# Altium footprint library E22系列-PcbLib.PcbLib: 5 footprints
Each footprint in its own frame and in the unit in brackets; x right, y up, seen from the top. Pads: shape width x height; smd on the part's side, far side on the other; paste and mask are expansions set on the pad; w line width, h text height; cw(c..) or ccw(c..) is an arc to the next point about the centre after c.
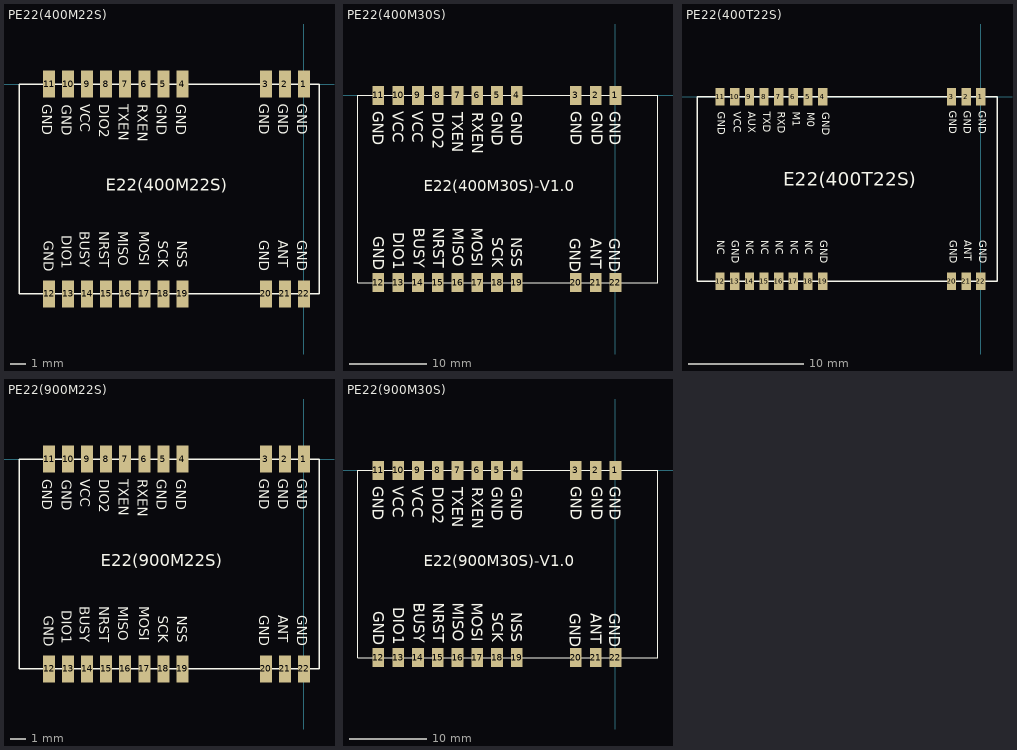
[diagram p0: the footprints below, top view; thin cyan lines are the x and y axes]

## PE22(400M22S) [mm] "20mm*14mm*2.8mm-S"
pads (22):
  rect 0.8x1.8 smd: 1(0,0) 2(-1.27,0) 3(-2.54,0) 4(-8.11,0) 5(-9.38,0) 6(-10.65,0) 7(-11.92,0) 8(-13.19,0) 9(-14.46,0) 10(-15.73,0) 11(-17,0) 12(-17,-14) 13(-15.73,-14) 14(-14.46,-14) 15(-13.19,-14) 16(-11.92,-14) 17(-10.65,-14) 18(-9.38,-14) 19(-8.11,-14) 20(-2.54,-14) 21(-1.27,-14) 22(0,-14)
Top Overlay:
  lines w0.1: -19,-14 -19,0 1,0 1,-14 -19,-14
  text "GND" at -8.528,-1.353 h0.65
  text "GND" at -9.807,-1.353 h0.65
  text "RXEN" at -11.086,-1.353 h0.65
  text "TXEN" at -12.364,-1.353 h0.65
  text "DIO2" at -13.643,-1.353 h0.65
  text "VCC" at -14.922,-1.353 h0.65
  text "GND" at -16.14,-1.373 h0.65
  text "GND" at -17.45,-1.353 h0.65
  text "GND" at -2.996,-1.323 h0.65
  text "GND" at -1.717,-1.323 h0.65
  text "GND" at -0.438,-1.323 h0.65
  text "GND" at -0.438,-10.428 h0.65
  text "ANT" at -1.717,-10.428 h0.65
  text "GND" at -2.996,-10.428 h0.65
  text "GND" at -17.349,-10.444 h0.65
  text "DIO1" at -16.14,-10.097 h0.65
  text "BUSY" at -14.936,-9.809 h0.65
  text "NRST" at -13.666,-9.809 h0.65
  text "MISO" at -12.396,-9.809 h0.65
  text "MOSI" at -10.999,-9.809 h0.65
  text "SCK" at -9.729,-10.444 h0.65
  text "NSS" at -8.459,-10.444 h0.65
  text "E22(400M22S)" at -13.208,-7.112 h0.8

## PE22(400M30S) [mm] "38.5mm*24mm*3.8mm-S"
pads (22):
  rect 1.5x2.5 smd: 1(0,0) 2(-2.54,0) 3(-5.08,0) 4(-12.65,0) 5(-15.19,0) 6(-17.73,0) 7(-20.27,0) 8(-22.81,0) 9(-25.35,0) 10(-27.89,0) 11(-30.43,0) 12(-30.43,-24) 13(-27.89,-24) 14(-25.35,-24) 15(-22.81,-24) 16(-20.27,-24) 17(-17.73,-24) 18(-15.19,-24) 19(-12.65,-24) 20(-5.08,-24) 21(-2.54,-24) 22(0,-24)
Top Overlay:
  lines w0.1: -33.04,-24 5.46,-24 5.46,0 -33.04,0 -33.04,-24
  text "E22(400M30S)-V1.0" at -24.599,-12.278 h1.4
  text "GND" at -13.366,-2.096 h1.4
  text "GND" at -15.899,-2.096 h1.4
  text "RXEN" at -18.402,-2.169 h1.4
  text "TXEN" at -20.935,-2.169 h1.4
  text "DIO2" at -23.438,-2.117 h1.4
  text "VCC" at -26.076,-2.051 h1.4
  text "VCC" at -28.61,-2.051 h1.4
  text "GND" at -31.143,-2.051 h1.4
  text "GND" at -5.743,-1.991 h1.4
  text "GND" at -3.07,-1.991 h1.4
  text "GND" at -0.748,-1.991 h1.4
  text "GND" at -0.775,-18.291 h1.4
  text "ANT" at -3.202,-18.291 h1.4
  text "GND" at -5.844,-18.291 h1.4
  text "GND" at -31.079,-18.064 h1.4
  text "DIO1" at -28.532,-17.552 h1.4
  text "BUSY" at -25.871,-16.979 h1.4
  text "NRST" at -23.406,-16.979 h1.4
  text "MISO" at -20.881,-16.979 h1.4
  text "MOSI" at -18.416,-16.979 h1.4
  text "SCK" at -15.816,-18.17 h1.4
  text "NSS" at -13.351,-18.17 h1.4

## PE22(400T22S) [mm] "26mm**16mm*3.23mm-S"
pads (22):
  rect 0.8x1.5 smd: 1(0,0) 2(-1.27,0) 3(-2.54,0) 4(-13.71,0) 5(-14.98,0) 6(-16.25,0) 7(-17.52,0) 8(-18.79,0) 9(-20.06,0) 10(-21.33,0) 11(-22.6,0) 12(-22.6,-16) 13(-21.33,-16) 14(-20.06,-16) 15(-18.79,-16) 16(-17.52,-16) 17(-16.25,-16) 18(-14.98,-16) 19(-13.71,-16) 20(-2.54,-16) 21(-1.27,-16) 22(0,-16)
Top Overlay:
  lines w0.127: -24.6,-16 -24.6,0 1.4,0 1.4,-16 -24.6,-16
  text "GND" at -0.408,-1.224 h1.1
  text "E22(400T22S)" at -17.107,-8.126 h2
  text "M0" at -15.257,-1.351 h1.1
  text "M1" at -16.536,-1.301 h1.1
  text "RXD" at -17.814,-1.301 h1.1
  text "TXD" at -19.093,-1.301 h1.1
  text "AUX" at -20.372,-1.301 h1.1
  text "VCC" at -21.651,-1.301 h1.1
  text "GND" at -23.01,-1.301 h1.1
  text "GND" at -13.97,-1.351 h1.1
  text "NC" at -23.06,-12.441 h1.1
  text "GND" at -21.811,-12.441 h1.1
  text "NC" at -20.532,-12.441 h1.1
  text "NC" at -19.253,-12.441 h1.1
  text "NC" at -17.974,-12.441 h1.1
  text "NC" at -16.696,-12.441 h1.1
  text "NC" at -15.417,-12.441 h1.1
  text "GND" at -14.138,-12.441 h1.1
  text "GND" at -0.358,-12.441 h1.1
  text "ANT" at -1.637,-12.441 h1.1
  text "GND" at -2.916,-12.441 h1.1
  text "GND" at -2.966,-1.224 h1.1
  text "GND" at -1.687,-1.224 h1.1

## PE22(900M22S) [mm] "20mm*14mm*2.8mm-S"
pads (22):
  rect 0.8x1.8 smd: 1(0,0) 2(-1.27,0) 3(-2.54,0) 4(-8.11,0) 5(-9.38,0) 6(-10.65,0) 7(-11.92,0) 8(-13.19,0) 9(-14.46,0) 10(-15.73,0) 11(-17,0) 12(-17,-14) 13(-15.73,-14) 14(-14.46,-14) 15(-13.19,-14) 16(-11.92,-14) 17(-10.65,-14) 18(-9.38,-14) 19(-8.11,-14) 20(-2.54,-14) 21(-1.27,-14) 22(0,-14)
Top Overlay:
  lines w0.1: -19,-14 1,-14 1,0 -19,0 -19,-14
  text "E22(900M22S)" at -13.539,-7.142 h0.8
  text "NSS" at -8.459,-10.444 h0.65
  text "SCK" at -9.729,-10.444 h0.65
  text "MOSI" at -10.999,-9.809 h0.65
  text "MISO" at -12.396,-9.809 h0.65
  text "NRST" at -13.666,-9.809 h0.65
  text "BUSY" at -14.936,-9.809 h0.65
  text "DIO1" at -16.14,-10.097 h0.65
  text "GND" at -17.349,-10.444 h0.65
  text "GND" at -2.996,-10.428 h0.65
  text "ANT" at -1.717,-10.428 h0.65
  text "GND" at -0.438,-10.428 h0.65
  text "GND" at -0.438,-1.323 h0.65
  text "GND" at -1.717,-1.323 h0.65
  text "GND" at -2.996,-1.323 h0.65
  text "GND" at -17.45,-1.353 h0.65
  text "GND" at -16.14,-1.373 h0.65
  text "VCC" at -14.922,-1.353 h0.65
  text "DIO2" at -13.643,-1.353 h0.65
  text "TXEN" at -12.364,-1.353 h0.65
  text "RXEN" at -11.086,-1.353 h0.65
  text "GND" at -9.807,-1.353 h0.65
  text "GND" at -8.528,-1.353 h0.65

## PE22(900M30S) [mm] "38.5mm*24mm*3.8mm-S"
pads (22):
  rect 1.5x2.5 smd: 1(0,0) 2(-2.54,0) 3(-5.08,0) 4(-12.65,0) 5(-15.19,0) 6(-17.73,0) 7(-20.27,0) 8(-22.81,0) 9(-25.35,0) 10(-27.89,0) 11(-30.43,0) 12(-30.43,-24) 13(-27.89,-24) 14(-25.35,-24) 15(-22.81,-24) 16(-20.27,-24) 17(-17.73,-24) 18(-15.19,-24) 19(-12.65,-24) 20(-5.08,-24) 21(-2.54,-24) 22(0,-24)
Top Overlay:
  lines w0.1: -33.04,-24 -33.04,0 5.46,0 5.46,-24 -33.04,-24
  text "NSS" at -13.351,-18.17 h1.4
  text "SCK" at -15.816,-18.17 h1.4
  text "MOSI" at -18.416,-16.979 h1.4
  text "MISO" at -20.881,-16.979 h1.4
  text "NRST" at -23.406,-16.979 h1.4
  text "BUSY" at -25.871,-16.979 h1.4
  text "DIO1" at -28.532,-17.552 h1.4
  text "GND" at -31.079,-18.064 h1.4
  text "GND" at -5.844,-18.291 h1.4
  text "ANT" at -3.202,-18.291 h1.4
  text "GND" at -0.775,-18.291 h1.4
  text "GND" at -0.748,-1.991 h1.4
  text "GND" at -3.07,-1.991 h1.4
  text "GND" at -5.743,-1.991 h1.4
  text "GND" at -31.143,-2.051 h1.4
  text "VCC" at -28.61,-2.051 h1.4
  text "VCC" at -26.076,-2.051 h1.4
  text "DIO2" at -23.438,-2.117 h1.4
  text "TXEN" at -20.935,-2.169 h1.4
  text "RXEN" at -18.402,-2.169 h1.4
  text "GND" at -15.899,-2.096 h1.4
  text "GND" at -13.366,-2.096 h1.4
  text "E22(900M30S)-V1.0" at -24.599,-12.278 h1.4